# Altium schematic symbol library SCH-MCU-WCH-CH571F-QFN28-4X4.SchLib: 1 symbol
Pins are listed as number, name and electrical type; pins without a type are passive.

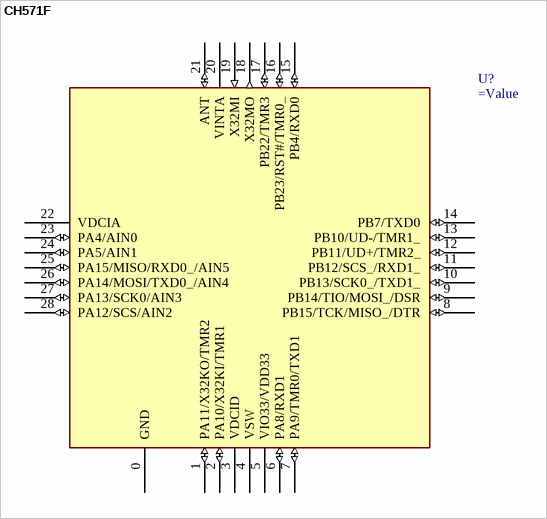
[diagram p0: symbol CH571F]

## CH571F
designator U?
pins: 0 GND (power), 1 PA11/X32KO/TMR2 (io), 2 PA10/X32KI/TMR1 (io), 3 VDCID (power), 4 VSW (power), 5 VIO33/VDD33 (power), 6 PA8/RXD1 (io), 7 PA9/TMR0/TXD1 (io), 8 PB15/TCK/MISO_/DTR (io), 9 PB14/TIO/MOSI_/DSR (io), 10 PB13/SCK0_/TXD1_ (io), 11 PB12/SCS_/RXD1_ (io), 12 PB11/UD+/TMR2_ (io), 13 PB10/UD-/TMR1_ (io), 14 PB7/TXD0 (io), 15 PB4/RXD0 (io), 16 PB23/RST#/TMR0_ (io), 17 PB22/TMR3 (io), 18 X32MO (out), 19 X32MI (in), 20 VINTA (power), 21 ANT (io), 22 VDCIA (power), 23 PA4/AIN0 (io), 24 PA5/AIN1 (io), 25 PA15/MISO/RXD0_/AIN5 (io), 26 PA14/MOSI/TXD0_/AIN4 (io), 27 PA13/SCK0/AIN3 (io), 28 PA12/SCS/AIN2 (io)
2 alternate drawings of the same symbol